# Altium integrated library ESP-WiWi.IntLib: 61 symbols (part 1 of 2)
Pins are listed as number, name and electrical type; pins without a type are passive.

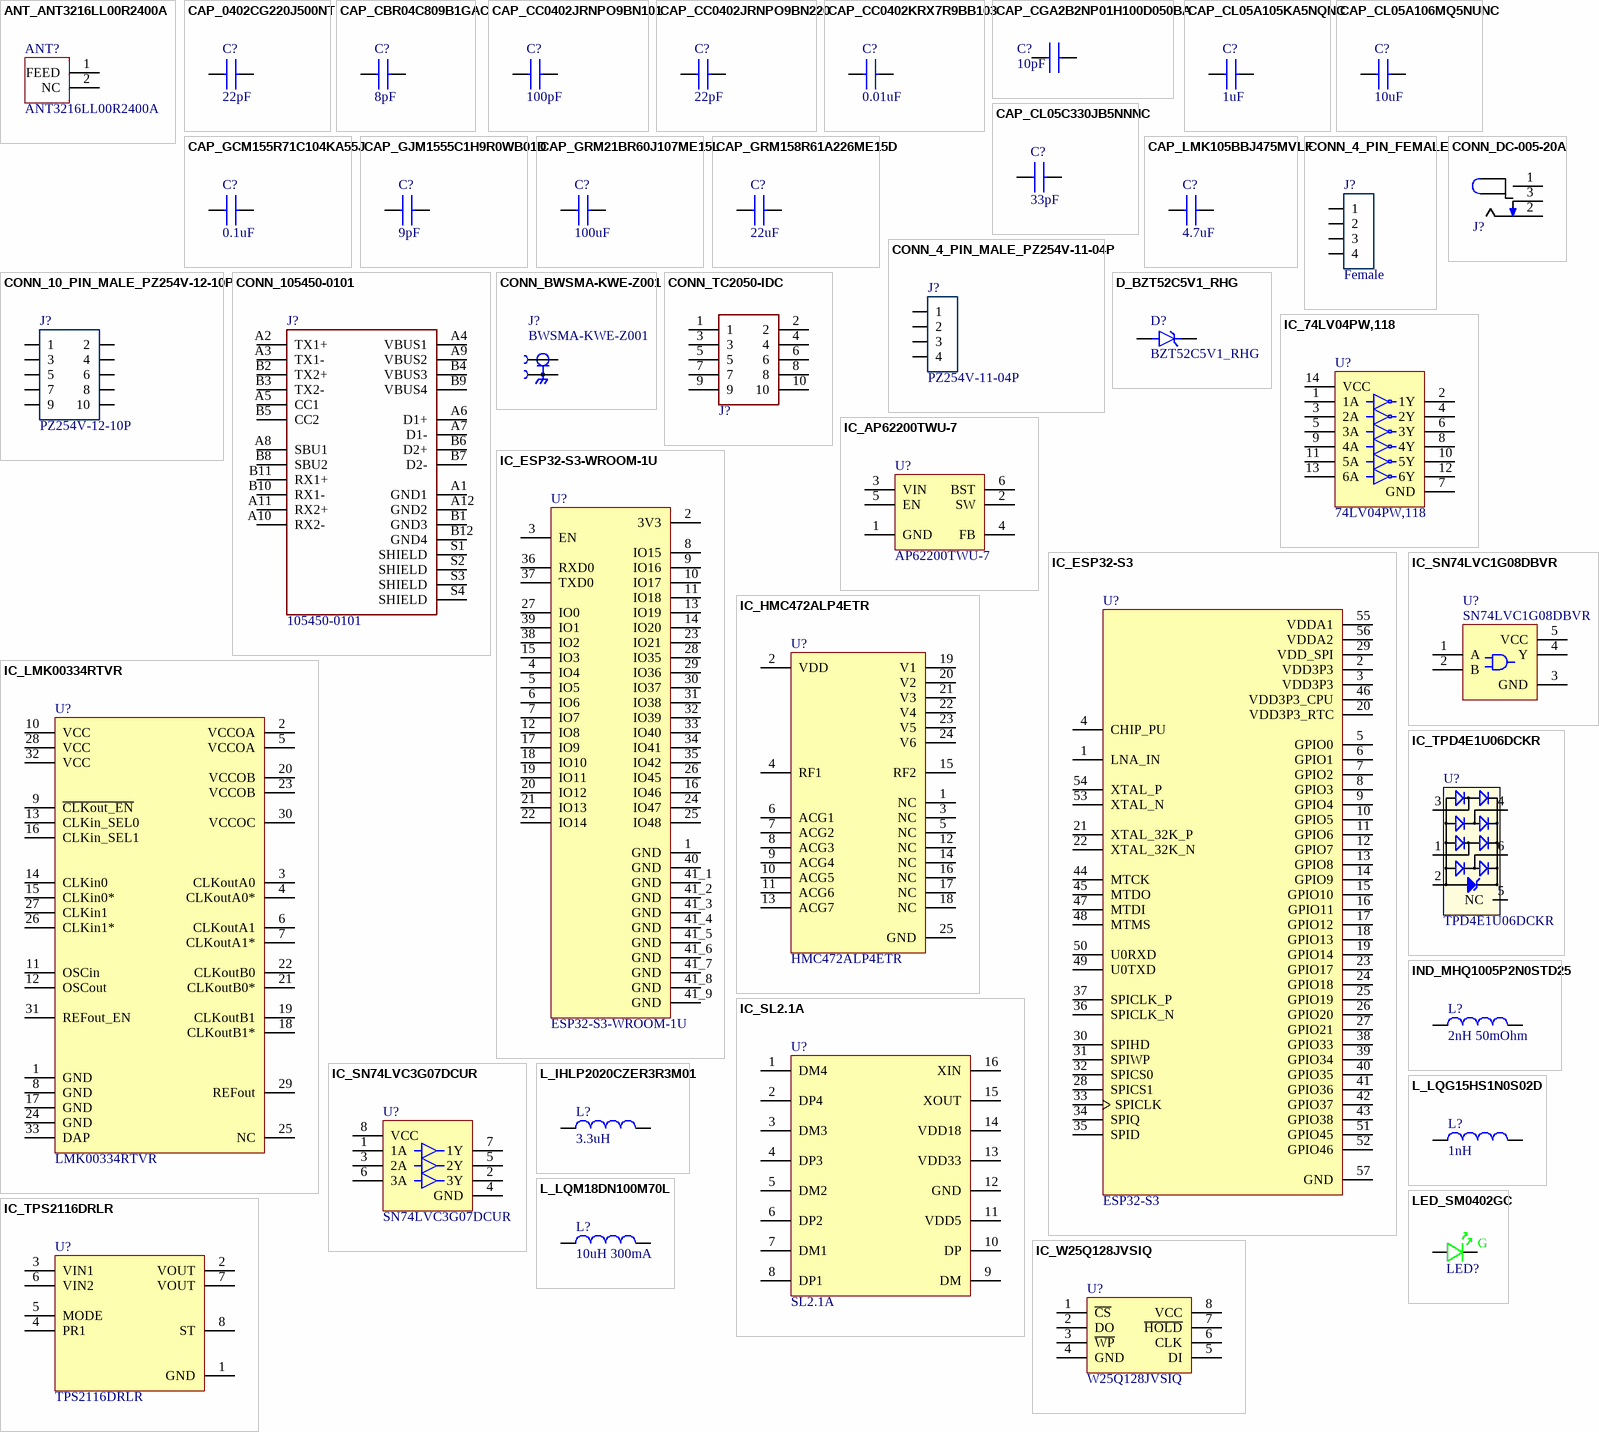
[diagram p0: symbols ANT_ANT3216LL00R2400A to LED_SM0402GC]

## ANT_ANT3216LL00R2400A
designator ANT?, comment ANT3216LL00R2400A
Chip Antenna Linear Single Band 50Ohm 2.4GHz 5.05dBi 2-Pin SMD T/R; Manufacturer: Yageo; Number of Bands: 1; Max Power Dissipation: 1W; Supplier 1: Digi-Key; Manufacturer Part Number: ANT3216LL00R2400A; RoHS: Yes; Category: RF Antennas; Mount: Surface Mount; Packaging: Cut Tape; Termination: Solder; ComponentLink1URL: http://www.yageo.com/NewPortal/_en/search/productDocs.jsp?YageoPartNumber=ANT3216LL00R2400A&src-supplier=Digi-Key; ComponentLink1Description: http://www.yageo.com/NewPortal/_en/search/productDocs.jsp?YageoPartNumber=ANT3216LL00R2400A&src-supplier=Digi-Key; Supplier Part Number 1: 311-4590-2-ND
footprint ANT_ANT3216LL00R2400A
pins: 1 FEED, 2 NC

## CAP_0402CG220J500NT
designator C?, comment 22pF
MULTILAYER CERAMIC CAPACITORS MLCC - SMD/SMT 22PF 50V 0402 ROHS 0402CG220J500NT; Type: Basic; Datasheet: https://datasheet.lcsc.com/szlcsc/Guangdong-Fenghua-Advanced-Tech-0402CG220J500NT_C1555.pdf; MFR Part #: 0402CG220J500NT; LCSC Part#: C1555; Value: 22pF
footprint CAP_0402
pins: 1, 2

## CAP_CBR04C809B1GAC
designator C?, comment 8pF
Cap Ceramic 8pF 100V C0G 0.1pF SMD 0402 125°C Punched Paper T/R; Manufacturer: KEMET; Manufacturer Part Number: CBR04C809B1GAC; Supplier 1: Digi-Key; RoHS: Yes; Category: Ceramic Capacitors; Stock 1: 120216; Pricing 1: 1=0.31, 10=0.214, 50=0.1426, 100=0.1212, 500=0.08556, 1000=0.07487, 2500=0.0713, 5000=0.06596 (USD); Mounting Technology: Surface Mount; Case/Package: 0402; Case Code (Metric): 1005; Case Code (Imperial): 0402; Min Operating Temperature: -55°C; Max Operating Temperature: 125°C; Package Quantity: 1; Value: 8pF; Voltage Rating: 100V; Packaging: Cut Tape; Voltage Rating (DC): 100V; Series: CBR; Length: 0.039inch; Width: 0.02inch; Thickness: 0.022inch; RoHS Compliant: Yes; ComponentLink1URL: https://datasheet.ciiva.com/6257/kem-c1030-cbr-smd-6257486.pdf?src-supplier=Digi-Key; ComponentLink1Description: https://datasheet.ciiva.com/6257/kem-c1030-cbr-smd-6257486.pdf?src-supplier=Digi-Key; Supplier Part Number 1: 399-8830-1-ND
footprint CAP_0402
pins: 1, 2

## CAP_CC0402JRNPO9BN101
designator C?, comment 100pF
0402 100 pF 50 V ±5 % Tolerance NP0 SMT Multilayer Ceramic Capacitor; Manufacturer: Yageo; Manufacturer Part Number: CC0402JRNPO9BN101; Tolerance: 5%; Voltage Rating: 50V; Dielectric: C0G; Temperature Coefficient: 30ppm/°C; Insulation Resistance: 100GR; Supplier 1: Digi-Key; RoHS: Yes; Category: Ceramic Capacitors; Stock 1: 12718535; Pricing 1: 1=0.1, 10=0.017, 50=0.0096, 100=0.0078, 500=0.00554, 1000=0.00436, 2500=0.00396, 5000=0.00365 (USD); Mounting Technology: Surface Mount; Case/Package: 0402; Pins: 2; Case Code (Imperial): 0402; Case Code (Metric): 1005; Dielectric Material: Ceramic; Min Operating Temperature: -55°C; Max Operating Temperature: 125°C; Value: 100pF; Voltage Rating (DC): 50V; Packaging: Tape and Reel; Package Quantity: 1; Termination: SMD/SMT; Voltage: 50V; Series: CC; Length: 1mm; Width: 0.02inch; Height: 0.5mm; Thickness: 0.022inch; Depth: 0.5mm; Radiation Hardening: No; Reach SVHC Compliant: No; Lead Free: Lead Free; RoHS Compliant: Yes; ComponentLink1URL: https://datasheet.ciiva.com/23767/25787-23767888.pdf?src-supplier=Newark; ComponentLink1Description: https://datasheet.ciiva.com/23767/25787-23767888.pdf?src-supplier=Newark; ComponentLink2URL: https://datasheet.ciiva.com/11786/0900766b80d84fbf-11786101.pdf?src-supplier=Rs; ComponentLink2Description: https://datasheet.ciiva.com/11786/0900766b80d84fbf-11786101.pdf?src-supplier=Rs; ComponentLink3URL: https://datasheet.ciiva.com/28450/1443161-28450220.pdf?src-supplier=Element14; ComponentLink3Description: https://datasheet.ciiva.com/28450/1443161-28450220.pdf?src-supplier=Element14; ComponentLink4URL: https://datasheet.ciiva.com/8033/1443161-8033598.pdf?src-supplier=Element14; ComponentLink4Description: https://datasheet.ciiva.com/8033/1443161-8033598.pdf?src-supplier=Element14; ComponentLink5URL: https://datasheet.ciiva.com/143/mlccorderingcode-143990.pdf?src-supplier=Digi-Key; ComponentLink5Description: https://datasheet.ciiva.com/143/mlccorderingcode-143990.pdf?src-supplier=Digi-Key; ComponentLink6URL: https://datasheet.ciiva.com/143/mlccorderingcode-143989.pdf?src-supplier=Digi-Key; ComponentLink6Description: https://datasheet.ciiva.com/143/mlccorderingcode-143989.pdf?src-supplier=Digi-Key; ComponentLink7URL: https://datasheet.ciiva.com/143/mlccorderingcode-143991.pdf?src-supplier=Digi-Key; ComponentLink7Description: https://datasheet.ciiva.com/143/mlccorderingcode-143991.pdf?src-supplier=Digi-Key; Supplier Part Number 1: 311-1024-1-ND
footprint CAP_0402
pins: 1, 2

## CAP_CC0402JRNPO9BN220
designator C?, comment 22pF
0402 22 pF 50 V ±5 % Tolerance NP0 SMT Multilayer Ceramic Capacitor; Manufacturer: Yageo; Manufacturer Part Number: CC0402JRNPO9BN220; Tolerance: 5%; Dielectric: C0G; Voltage Rating (DC): 50V; Temperature Coefficient: 30ppm/°C; Insulation Resistance: 100GR; Supplier 1: Digi-Key; RoHS: Yes; Category: Ceramic Capacitors; Stock 1: 1052; Pricing 1: 1=0.10000, 10=0.02200, 50=0.01180, 100=0.00960, 500=0.00688, 1000=0.00541, 2500=0.00492, 5000=0.00452 (USD); Mount: Surface Mount; Case/Package: 0402; Number of Pins: 2; Dielectric Material: Ceramic; Case Code (Metric): 1005; Case Code (Imperial): 0402; Min Operating Temperature: -55°C; Max Operating Temperature: 125°C; Capacitance: 22pF; Voltage: 50V; Series: CC; Voltage Rating: 50V; Packaging: Tape and Reel; Package Quantity: 1; Termination: SMD/SMT; Resistor Type: Ceramic; Length: 1mm; Width: 0.02inch; Height: 0.5mm; Depth: 0.5mm; Thickness: 0.022inch; Radiation Hardening: No; REACH SVHC: No SVHC; Lead Free: Lead Free; RoHS Compliant: Yes; ComponentLink1URL: https://datasheet.ciiva.com/143/mlccorderingcode-143986.pdf?src-supplier=Digi-Key; ComponentLink1Description: https://datasheet.ciiva.com/143/mlccorderingcode-143986.pdf?src-supplier=Digi-Key; ComponentLink2URL: https://datasheet.ciiva.com/143/mlccorderingcode-143987.pdf?src-supplier=Digi-Key; ComponentLink2Description: https://datasheet.ciiva.com/143/mlccorderingcode-143987.pdf?src-supplier=Digi-Key; ComponentLink3URL: https://datasheet.ciiva.com/143/mlccorderingcode-143988.pdf?src-supplier=Digi-Key; ComponentLink3Description: https://datasheet.ciiva.com/143/mlccorderingcode-143988.pdf?src-supplier=Digi-Key; ComponentLink4URL: https://datasheet.ciiva.com/5789/1443161-5789509.pdf?src-supplier=Farnell; ComponentLink4Description: https://datasheet.ciiva.com/5789/1443161-5789509.pdf?src-supplier=Farnell; ComponentLink5URL: https://datasheet.ciiva.com/5425/upy-gp-np0-16v-to-50v-8-5425483.pdf?src-supplier=Mouser; ComponentLink5Description: https://datasheet.ciiva.com/5425/upy-gp-np0-16v-to-50v-8-5425483.pdf?src-supplier=Mouser; ComponentLink6URL: https://datasheet.ciiva.com/15189/getdatasheetpartid-370074-15189117.pdf?src-supplier=Verical; ComponentLink6Description: https://datasheet.ciiva.com/15189/getdatasheetpartid-370074-15189117.pdf?src-supplier=Verical; ComponentLink7URL: https://datasheet.ciiva.com/7656/1132289-7656615.pdf?src-supplier=Element14; ComponentLink7Description: https://datasheet.ciiva.com/7656/1132289-7656615.pdf?src-supplier=Element14; ComponentLink8URL: https://datasheet.ciiva.com/16625/upy-gp-np0-16v-to-50v-8-16625509.pdf?src-supplier=Avnet+Europe; ComponentLink8Description: https://datasheet.ciiva.com/16625/upy-gp-np0-16v-to-50v-8-16625509.pdf?src-supplier=Avnet+Europe; ComponentLink9URL: https://datasheet.ciiva.com/8033/1443161-8033605.pdf?src-supplier=Element14; ComponentLink9Description: https://datasheet.ciiva.com/8033/1443161-8033605.pdf?src-supplier=Element14; ComponentLink10URL: https://datasheet.ciiva.com/8033/1443161-8033606.pdf?src-supplier=Element14; ComponentLink10Description: https://datasheet.ciiva.com/8033/1443161-8033606.pdf?src-supplier=Element14; ComponentLink11URL: https://datasheet.ciiva.com/8033/1443161-8033607.pdf?src-supplier=Element14; ComponentLink11Description: https://datasheet.ciiva.com/8033/1443161-8033607.pdf?src-supplier=Element14; Supplier Part Number 1: 311-1018-1-ND
footprint CAP_0402
pins: 1, 2

## CAP_CC0402KRX7R9BB103
designator C?, comment 0.01uF
Cap Ceramic 0.01uF 50V X7R 10% Pad SMD 0402 125°C T/R; Manufacturer: Yageo; Manufacturer Part Number: CC0402KRX7R9BB103; Capacitance: 10nF; Supplier 1: Digi-Key; RoHS: Yes; Category: Ceramic Capacitors; Stock 1: 2049089; Pricing 1: 1=0.10000, 10=0.01800, 50=0.01000, 100=0.00820, 500=0.00588, 1000=0.00462, 2500=0.00420, 5000=0.00386 (USD); Mount: Surface Mount; Case/Package: 0402; Case Code (Imperial): 0402; Case Code (Metric): 1005; Min Operating Temperature: -55°C; Max Operating Temperature: 125°C; Tolerance: 10%; Dielectric: X7R; Packaging: Tape and Reel; Voltage Rating: 50V; Voltage Rating (DC): 50V; Package Quantity: 1; Termination: SMD/SMT; Resistor Type: Ceramic; Voltage: 50V; Series: CC; Length: 1mm; Width: 0.5mm; Height: 0.5mm; Thickness: 0.022inch; Depth: 0.5mm; Radiation Hardening: No; RoHS Compliant: Yes; REACH SVHC: No SVHC; Lead Free: Lead Free; Halogen Free: Halogen Free; ComponentLink1URL: https://datasheet.ciiva.com/11788/0900766b8079c870-11788375.pdf?src-supplier=RSComponents; ComponentLink1Description: https://datasheet.ciiva.com/11788/0900766b8079c870-11788375.pdf?src-supplier=RSComponents; ComponentLink2URL: https://datasheet.ciiva.com/26862/getdatasheetpartid-138248-26862642.pdf?src-supplier=Verical; ComponentLink2Description: https://datasheet.ciiva.com/26862/getdatasheetpartid-138248-26862642.pdf?src-supplier=Verical; ComponentLink3URL: https://datasheet.ciiva.com/7978/1489800-7978093.pdf?src-supplier=Element14; ComponentLink3Description: https://datasheet.ciiva.com/7978/1489800-7978093.pdf?src-supplier=Element14; ComponentLink4URL: https://datasheet.ciiva.com/28450/1489800-28450377.pdf?src-supplier=Element14; ComponentLink4Description: https://datasheet.ciiva.com/28450/1489800-28450377.pdf?src-supplier=Element14; ComponentLink5URL: https://datasheet.ciiva.com/176/mlccorderingcode-176349.pdf?src-supplier=Digi-Key; ComponentLink5Description: https://datasheet.ciiva.com/176/mlccorderingcode-176349.pdf?src-supplier=Digi-Key; ComponentLink6URL: https://datasheet.ciiva.com/176/mlccorderingcode-176348.pdf?src-supplier=Digi-Key; ComponentLink6Description: https://datasheet.ciiva.com/176/mlccorderingcode-176348.pdf?src-supplier=Digi-Key; ComponentLink7URL: https://datasheet.ciiva.com/176/mlccorderingcode-176350.pdf?src-supplier=Digi-Key; ComponentLink7Description: https://datasheet.ciiva.com/176/mlccorderingcode-176350.pdf?src-supplier=Digi-Key; ComponentLink8URL: https://datasheet.ciiva.com/16625/upy-gphc-x7r-6-3v-to-50v-8-16625513.pdf?src-supplier=Avnet+Europe; ComponentLink8Description: https://datasheet.ciiva.com/16625/upy-gphc-x7r-6-3v-to-50v-8-16625513.pdf?src-supplier=Avnet+Europe; Supplier Part Number 1: 311-1349-1-ND
footprint CAP_0402
pins: 1, 2

## CAP_CGA2B2NP01H100D050BA
designator C?, comment 10pF
Cap Ceramic 10pF 50V C0G 0.5pF Pad SMD 0402 150C Automotive T/R; Manufacturer: TDK; Manufacturer Part Number: CGA2B2NP01H100D050BA; Supplier 1: Digi-Key; RoHS: Yes; Category: Ceramic Capacitors; Stock 1: 696060; Pricing 1: 1=0.1, 10=0.072, 50=0.0408, 100=0.0338, 500=0.02372, 1000=0.01964, 2500=0.01828, 5000=0.01672 (USD); Mounting Technology: Surface Mount; Case/Package: 0402; Case Code (Metric): 1005; Case Code (Imperial): 0402; Weight: 2.3E-05oz; Min Operating Temperature: -55°C; Max Operating Temperature: 150°C; Package Quantity: 1; Packaging: Tape and Reel; Value: 10pF; Voltage Rating: 50V; Dielectric: C0G; Termination: SMD/SMT; Voltage Rating (DC): 50V; Features: High Temperature; Series: CGA; Length: 0.039inch; Width: 0.02inch; Height: 0.5mm; Thickness: 0.022inch; Ratings: AEC-Q200; Lead Free: Lead Free; RoHS Compliant: Yes; ComponentLink1URL: http://www.farnell.com/datasheets/2628288.pdf?src-supplier=Farnell; ComponentLink1Description: http://www.farnell.com/datasheets/2628288.pdf?src-supplier=Farnell; ComponentLink2URL: http://www.mouser.com/ds/2/400/mlcc_automotive_hightemp_en-520039.pdf?src-supplier=Mouser; ComponentLink2Description: http://www.mouser.com/ds/2/400/mlcc_automotive_hightemp_en-520039.pdf?src-supplier=Mouser; ComponentLink3URL: http://product.tdk.com/en/catalog/datasheets/mlcc_automotive_hightemp_en.pdf?src-supplier=Avnet; ComponentLink3Description: http://product.tdk.com/en/catalog/datasheets/mlcc_automotive_hightemp_en.pdf?src-supplier=Avnet; ComponentLink4URL: https://product.tdk.com/info/en/documents/chara_sheet/CGA2B2NP01H100D050BA.pdf?src-supplier=Digi-Key; ComponentLink4Description: https://product.tdk.com/info/en/documents/chara_sheet/CGA2B2NP01H100D050BA.pdf?src-supplier=Digi-Key; ComponentLink5URL: http://www.farnell.com/datasheets/2628288.pdf?src-supplier=Element14; ComponentLink5Description: http://www.farnell.com/datasheets/2628288.pdf?src-supplier=Element14; ComponentLink6URL: http://www.farnell.com/datasheets/2628288.pdf?src-supplier=Newark; ComponentLink6Description: http://www.farnell.com/datasheets/2628288.pdf?src-supplier=Newark; Supplier Part Number 1: 445-12120-1-ND
footprint CAP_0402
pins: 1, 2

## CAP_CL05A105KA5NQNC
designator C?, comment 1uF
Cap Ceramic 1uF 25V X5R 10% SMD 0402 85°C Cardboard T/R; Manufacturer: Samsung; Manufacturer Part Number: CL05A105KA5NQNC; Supplier 1: Digi-Key; RoHS: Yes; Category: Ceramic Capacitors; Pricing 1: 1=0.21000, 10=0.14900, 50=0.08460, 100=0.07000, 500=0.04910, 1000=0.04065, 2500=0.03784, 5000=0.03462 (USD); Mount: Surface Mount; Case/Package: 0402; Case Code (Metric): 1005; Case Code (Imperial): 0402; Material: Ceramic; Min Operating Temperature: -55°C; Max Operating Temperature: 85°C; Tolerance: 10%; Capacitance: 1uF; Voltage Rating: 25V; Packaging: Tape and Reel; Package Quantity: 10000; Dielectric: X5R; Series: CL; Construction: Flat; Length: 1mm; Width: 0.02inch; Height: 0.5mm; Depth: 0.5mm; Thickness: 0.022inch; Radiation Hardening: No; Lead Free: Lead Free; RoHS Compliant: Yes; ComponentLink1URL: https://datasheet.ciiva.com/3777/cl05a105ka5nqnc-3777709.pdf?src-supplier=Arrow+Electronics; ComponentLink1Description: https://datasheet.ciiva.com/3777/cl05a105ka5nqnc-3777709.pdf?src-supplier=Arrow+Electronics; ComponentLink2URL: https://datasheet.ciiva.com/25720/cl05a105ka5nqnc-25720771.pdf?src-supplier=Digi-Key; ComponentLink2Description: https://datasheet.ciiva.com/25720/cl05a105ka5nqnc-25720771.pdf?src-supplier=Digi-Key; ComponentLink3URL: https://datasheet.ciiva.com/29198/459147-da-01-en-vs-kondensator-0402-29198339.pdf?src-supplier=Conrad; ComponentLink3Description: https://datasheet.ciiva.com/29198/459147-da-01-en-vs-kondensator-0402-29198339.pdf?src-supplier=Conrad; Supplier Part Number 1: 1276-1445-6-ND
footprint CAP_0402
pins: 1, 2

## CAP_CL05A106MQ5NUNC
designator C?, comment 10uF
Cap Ceramic 10uF 6.3V X5R 20% SMD 0402 85°C Paper T/R; Manufacturer: Samsung; Manufacturer Part Number: CL05A106MQ5NUNC; Supplier 1: Digi-Key; RoHS: Yes; Category: Ceramic Capacitors; Stock 1: 3345553; Pricing 1: 1=0.27000, 10=0.18400, 50=0.11020, 100=0.09300, 500=0.06362, 1000=0.05629, 2500=0.05384, 5000=0.04894 (USD); Mount: Surface Mount; Case/Package: 0402; Case Code (Metric): 1005; Case Code (Imperial): 0402; Min Operating Temperature: -55°C; Max Operating Temperature: 85°C; Tolerance: 20%; Capacitance: 10uF; Dielectric: X5R; Packaging: Tape and Reel; Package Quantity: 1; Voltage Rating: 6.3V; Series: CL; Construction: Flat; Length: 1mm; Width: 0.02inch; Height: 0.5mm; Thickness: 0.028inch; Depth: 0.5mm; Radiation Hardening: No; ComponentLink1URL: https://datasheet.ciiva.com/16437/cl05a106mq5nunc-16437356.pdf?src-supplier=Future+Electronics; ComponentLink1Description: https://datasheet.ciiva.com/16437/cl05a106mq5nunc-16437356.pdf?src-supplier=Future+Electronics; ComponentLink2URL: https://datasheet.ciiva.com/26877/getdatasheetpartid-355289-26877841.pdf?src-supplier=Verical; ComponentLink2Description: https://datasheet.ciiva.com/26877/getdatasheetpartid-355289-26877841.pdf?src-supplier=Verical; Supplier Part Number 1: 1276-1451-1-ND
footprint CAP_0402
pins: 1, 2

## CAP_CL05C330JB5NNNC
designator C?, comment 33pF
Ceramic capacitor SMD-0402 33pF /50V C0G# J +-5%, Samsung, RoHS; Manufacturer Part Number: CL05C330JB5NNNC; Tolerance: 5%; Voltage Rating: 50V; Dielectric: C0G; Temperature Coefficient: 300ppm/°C; Supplier 1: Digi-Key; Manufacturer: Samsung; RoHS: Yes; Category: Ceramic Capacitors; Stock 1: 9061474; Pricing 1: 1=0.1, 10=0.023, 50=0.0126, 100=0.0102, 500=0.00732, 1000=0.00575, 2500=0.00523, 5000=0.00481 (USD); Mounting Technology: Surface Mount; Case/Package: 0402; Case Code (Metric): 1005; Case Code (Imperial): 0402; Material: Ceramic; Min Operating Temperature: -55°C; Max Operating Temperature: 125°C; Package Quantity: 1; Packaging: Tape and Reel; Value: 33pF; Voltage: 50V; Voltage Rating (DC): 50V; Series: CL; Construction: Flat; Length: 1mm; Width: 0.02inch; Height: 0.5mm; Thickness: 0.022inch; Depth: 0.5mm; Radiation Hardening: No; Lead Free: Lead Free; RoHS Compliant: Yes; ComponentLink1URL: https://datasheet.ciiva.com/15195/getdatasheetpartid-355282-15195687.pdf?src-supplier=Verical; ComponentLink1Description: https://datasheet.ciiva.com/15195/getdatasheetpartid-355282-15195687.pdf?src-supplier=Verical; ComponentLink2URL: https://datasheet.ciiva.com/29198/458594-da-01-en-vs-kondensator-0402-29198402.pdf?src-supplier=Conrad; ComponentLink2Description: https://datasheet.ciiva.com/29198/458594-da-01-en-vs-kondensator-0402-29198402.pdf?src-supplier=Conrad; Supplier Part Number 1: 1276-1272-1-ND
footprint CAP_0402
pins: 1, 2

## CAP_GCM155R71C104KA55J
designator C?, comment 0.1uF
Cap Ceramic 0.1uF 16V X7R 10% SMD 0402 125C Paper T/R; Manufacturer: Murata; Manufacturer Part Number: GCM155R71C104KA55J; Capacitance: 100nF; Supplier 1: Digi-Key; RoHS: Yes; Category: Ceramic Capacitors; Stock 1: 10738061; Pricing 1: 1=0.10000, 10=0.03500, 50=0.01920, 100=0.01560, 500=0.01116, 1000=0.00877, 2500=0.00798, 5000=0.00734 (USD); Mount: Surface Mount; Case/Package: 0402; Case Code (Imperial): 0402; Case Code (Metric): 1005; Min Operating Temperature: -55°C; Max Operating Temperature: 125°C; Tolerance: 10%; Voltage Rating: 16V; Voltage Rating (DC): 16V; Packaging: Tape and Reel; Package Quantity: 1; Dielectric: X7R; Termination: SMD/SMT; Series: GCM; Construction: Flat; Length: 1mm; Width: 0.5mm; Height: 0.5mm; Thickness: 0.022inch; Depth: 0.5mm; Ratings: AEC-Q200; Radiation Hardening: No; Lead Free: Lead Free; ComponentLink1URL: https://datasheet.ciiva.com/11618/product-11618848.pdf?src-supplier=Avnet; ComponentLink1Description: https://datasheet.ciiva.com/11618/product-11618848.pdf?src-supplier=Avnet; ComponentLink2URL: https://datasheet.ciiva.com/16440/gcm155r71c104ka55j-16440393.pdf?src-supplier=Future+Electronics; ComponentLink2Description: https://datasheet.ciiva.com/16440/gcm155r71c104ka55j-16440393.pdf?src-supplier=Future+Electronics; ComponentLink3URL: https://datasheet.ciiva.com/29542/product-29542474.pdf?src-supplier=Digi-Key; ComponentLink3Description: https://datasheet.ciiva.com/29542/product-29542474.pdf?src-supplier=Digi-Key; ComponentLink4URL: https://datasheet.ciiva.com/29542/product-29542475.pdf?src-supplier=Digi-Key; ComponentLink4Description: https://datasheet.ciiva.com/29542/product-29542475.pdf?src-supplier=Digi-Key; Supplier Part Number 1: 490-7998-1-ND
footprint CAP_0402
pins: 1, 2

## CAP_GJM1555C1H9R0WB01D
designator C?, comment 9pF
Cap Ceramic 9pF 50V C0G 0.05pF SMD 0402 125°C Paper T/R; Manufacturer: Murata; Manufacturer Part Number: GJM1555C1H9R0WB01D; Supplier 1: Digi-Key; RoHS: Yes; Category: Ceramic Capacitors; Stock 1: 62783; Pricing 1: 1=0.19, 10=0.131, 50=0.0786, 100=0.0664, 500=0.04542, 1000=0.04019, 2500=0.03844, 5000=0.03495 (USD); Mounting Technology: Surface Mount; Case/Package: 0402; Case Code (Metric): 1005; Case Code (Imperial): 0402; Min Operating Temperature: -55°C; Max Operating Temperature: 125°C; Package Quantity: 10000; Value: 9pF; Voltage Rating: 50V; Packaging: Tape and Reel; Dielectric: C0G; Termination: SMD/SMT; Voltage Rating (DC): 50V; Series: GJM; Construction: Flat; Length: 1mm; Width: 0.02inch; Height: 0.5mm; Thickness: 0.022inch; Depth: 0.5mm; Radiation Hardening: No; RoHS Compliant: Yes; ComponentLink1URL: https://datasheet.ciiva.com/169/product-169670.pdf?src-supplier=Digi-Key; ComponentLink1Description: https://datasheet.ciiva.com/169/product-169670.pdf?src-supplier=Digi-Key; ComponentLink2URL: https://datasheet.ciiva.com/11609/product-11609469.pdf?src-supplier=Avnet; ComponentLink2Description: https://datasheet.ciiva.com/11609/product-11609469.pdf?src-supplier=Avnet; Supplier Part Number 1: 490-11242-1-ND
footprint CAP_0402
pins: 1, 2

## CAP_GRM21BR60J107ME15L
designator C?, comment 100uF
0805 100 uF 6.3 V ±20% Tolerance X5R Multilayer Ceramic Chip Capacitor; Manufacturer: Murata; Manufacturer Part Number: GRM21BR60J107ME15L; Voltage Rating: 6.3V; Supplier 1: Digi-Key; RoHS: Yes; Category: Ceramic Capacitors; Stock 1: 569112; Pricing 1: 1=1.15000, 10=0.90900, 50=0.78800, 100=0.68180, 500=0.51516, 1000=0.45456 (USD); Mounting Technology: Surface Mount; Case/Package: 0805; Case Code (Metric): 2012; Case Code (Imperial): 0805; Min Operating Temperature: -55°C; Max Operating Temperature: 85°C; Packaging: Cut Tape; Dielectric: X5R; Tolerance: 20%; Voltage Rating (DC): 6.3V; Value: 100uF; Series: GRM; Length: 0.079inch; Width: 0.049inch; Thickness: 0.057inch; Reach SVHC Compliant: Yes; Lead Free: Lead Free; RoHS Compliant: Yes; ComponentLink1URL: http://www.farnell.com/datasheets/1957830.pdf?src-supplier=Farnell; ComponentLink1Description: http://www.farnell.com/datasheets/1957830.pdf?src-supplier=Farnell; ComponentLink2URL: http://www.farnell.com/datasheets/1957830.pdf?src-supplier=Element14; ComponentLink2Description: http://www.farnell.com/datasheets/1957830.pdf?src-supplier=Element14; ComponentLink3URL: https://search.murata.co.jp/Ceramy/image/img/A01X/G101/ENG/GRM21BR60J107ME15-01.pdf?src-supplier=Digi-Key; ComponentLink3Description: https://search.murata.co.jp/Ceramy/image/img/A01X/G101/ENG/GRM21BR60J107ME15-01.pdf?src-supplier=Digi-Key; ComponentLink4URL: http://www.farnell.com/datasheets/1957830.pdf?src-supplier=Newark; ComponentLink4Description: http://www.farnell.com/datasheets/1957830.pdf?src-supplier=Newark; Supplier Part Number 1: 490-13981-1-ND
footprint CAP_0805
pins: 1, 2

## CAP_GRM158R61A226ME15D
designator C?, comment 22uF
General Up to 85C Reflow soldering; Manufacturer: Murata; Manufacturer Part Number: GRM158R61A226ME15D; Supplier 1: Digi-Key; RoHS: Yes; Category: Ceramic Capacitors; Stock 1: 10275; Pricing 1: 1=0.48000, 10=0.33200, 50=0.23260, 100=0.19940, 500=0.14954, 1000=0.12627, 2500=0.11962 (USD); Supplier Part Number 1: 490-GRM158R61A226ME15DCT-ND
footprint CAP_0402
pins: 1, 2

## CAP_LMK105BBJ475MVLF
designator C?, comment 4.7uF
Multilayer Ceramic Capacitors MLCC - SMD/SMT 4.7uF 10V X5R +/-20% 0402 Gen Purp; Manufacturer: Taiyo Yuden; Manufacturer Part Number: LMK105BBJ475MVLF; Tolerance: 20%; Supplier 1: Digi-Key; RoHS: Yes; Category: Ceramic Capacitors; Pricing 1: 1=0.21000, 10=0.14400, 50=0.08640, 100=0.07300, 500=0.04994, 1000=0.04417, 2500=0.04225, 5000=0.03841 (USD); Mount: Surface Mount; Case/Package: 0402; Case Code (Metric): 1005; Case Code (Imperial): 0402; Weight: 2.3E-05oz; Min Operating Temperature: -55°C; Max Operating Temperature: 85°C; Capacitance: 4.7uF; Package Quantity: 10000; Packaging: Tape and Reel; Voltage Rating: 10V; Voltage Rating (DC): 10V; Dielectric: X5R; Termination: SMD/SMT; Resistor Type: Ceramic; Length: 1mm; Width: 0.02inch; Height: 0.5mm; Thickness: 0.022inch; Halogen Free: Halogen Free; RoHS Compliant: Yes; ComponentLink1URL: https://datasheet.ciiva.com/24462/423lmk105bbj475mvlf-24462535.pdf?src-supplier=Onlinecomponents.com; ComponentLink1Description: https://datasheet.ciiva.com/24462/423lmk105bbj475mvlf-24462535.pdf?src-supplier=Onlinecomponents.com; ComponentLink2URL: https://datasheet.ciiva.com/18697/mlcc-all-e-18697686.pdf?src-supplier=Digi-Key; ComponentLink2Description: https://datasheet.ciiva.com/18697/mlcc-all-e-18697686.pdf?src-supplier=Digi-Key; ComponentLink3URL: https://datasheet.ciiva.com/18697/mlcc-all-e-18697685.pdf?src-supplier=Digi-Key; ComponentLink3Description: https://datasheet.ciiva.com/18697/mlcc-all-e-18697685.pdf?src-supplier=Digi-Key; Supplier Part Number 1: 587-3408-1-ND
footprint CAP_0402
pins: 1, 2

## CONN_4_PIN_FEMALE
designator J?, comment value Female  (hidden comment: PPTC041LFBN-RC)
4 Position Header Connector 0.100" (2.54mm) Through Hole Tin; Digikey Link: https://www.digikey.com/product-detail/en/PPTC061LFBN-RC/S7004-ND/810145/?itemSeq=304982353; Digikey Part: S7004-ND; LCSC Part#: DNP
footprint CONN_4_PIN_100MIL
pins: 1, 2, 3, 4

## CONN_4_PIN_MALE_PZ254V-11-04P
designator J?, comment PZ254V-11-04P
单排排针 间距2.54mm 4pin 直插; Manufacturer: XFCN; Supplier 1: LCSC; Manufacturer Part Number: PZ254V-11-04P; RoHS: No; Stock 1: 101260; Pricing 1: 20=0.0196, 200=0.0157, 1000=0.0125, 2000=0.0112, 10000=0.01, 20000=0.0095 (USD); Supplier Part Number 1: C2691448
footprint CONN_4_PIN_M_100MIL
pins: 1, 2, 3, 4

## CONN_10_PIN_MALE_PZ254V-12-10P
designator J?, comment PZ254V-12-10P
双排排针 间距2.54mm 10pin 直插; Manufacturer: XFCN; Supplier 1: LCSC; Manufacturer Part Number: PZ254V-12-10P; RoHS: No; Stock 1: 26650; Pricing 1: 10=0.0491, 100=0.0405, 300=0.0362, 1000=0.0308, 5000=0.0283, 10000=0.027 (USD); Supplier Part Number 1: C492422
footprint CONN_10_PIN_M_100MIL
pins: 1, 2, 3, 4, 5, 6, 7, 8, 9, 10

## CONN_105450-0101
designator J?, comment 105450-0101
USB-C (USB TYPE-C) USB 3.2 Gen 2 (USB 3.1 Gen 2, Superspeed + (USB 3.1)) Receptacle Connector 24 Position Surface Mount, Right Angle; Through Hole; MF: Molex; MP: 105450-0101; Availability: In Stock; Check_prices: https://www.snapeda.com/parts/105450-0101/Molex/view-part/?ref=eda; Price: None; SnapEDA_Link: https://www.snapeda.com/parts/105450-0101/Molex/view-part/?ref=snap; Purchase-URL: https://pricing.snapeda.com/search/part/105450-0101/?ref=eda; Package: None; Value: *
footprint CONN_105450-0101
pins: A1 GND1, A2 TX1+, A3 TX1-, A4 VBUS1, A5 CC1, A6 D1+, A7 D1-, A8 SBU1, A9 VBUS2, A10 RX2-, A11 RX2+, A12 GND2, B1 GND3, B2 TX2+, B3 TX2-, B4 VBUS3, B5 CC2, B6 D2+, B7 D2-, B8 SBU2, B9 VBUS4, B10 RX1-, B11 RX1+, B12 GND4, S1 SHIELD, S2 SHIELD, S3 SHIELD, S4 SHIELD

## CONN_BWSMA-KWE-Z001
designator J?, comment BWSMA-KWE-Z001
0-12.4GHz 50Ω 335V 弯插; Manufacturer: BAT Wireless; Supplier 1: LCSC; Manufacturer Part Number: BWSMA-KWE-Z001; RoHS: No; Stock 1: 23693; Pricing 1: 1=0.4407, 10=0.3469, 30=0.3023, 100=0.261, 500=0.2498, 1000=0.2435 (USD); Supplier Part Number 1: C496551
footprint CONN_SMA_5
pins: 1, S1 2, S2 2, S3 3, S4 4

## CONN_DC-005-20A
designator J?, comment Power Jack  (value not drawn)
Power Barrel Connector Jack 2.10mm ID (0.083"), 5.50mm OD (0.217") Through Hole, Right Angle; Value: CONN PWR JACK 2X5.5MM SOLDER; Digikey Link: https://www.digikey.com/product-detail/en/PJ-102A/CP-102A-ND/275425/?itemSeq=304982367; Digikey Part: CP-102A-ND; LCSC Part#: C136744; Type: Extended
footprint CONN_DC-005-20A
pins: 1 (power), 2 (power), 3 (power)

## CONN_TC2050-IDC
designator J?  (value not drawn)
Cbl Plug-Of-Nails 10-Pin w/Legs; MF: {'manufacturer': u'Tag-Connect LLC'}; Availability: Unavailable; Price: None; Value: *; MP: TC2050-IDC; Package: None
footprint CONN_TAG-CONNECT_TC2050-IDC
pins: 1, 2, 3, 4, 5, 6, 7, 8, 9, 10

## D_BZT52C5V1_RHG
designator D?, comment BZT52C5V1_RHG
Vz=5.1V 4.8V~5.4V Izt=5mA; Manufacturer: Diodes; Manufacturer Part Number: BZT52C5V1-7-F; MP: BZT52C5V1 RHG; MF: Taiwan Semiconductor; Zener Voltage: 5.1V; Max Power Dissipation: 500mW; Impedance: 60R; Voltage Tolerance: 6%; Test Current: 5mA; Max Reverse Leakage Current: 2uA; Forward Voltage: 900mV; Output Current: 50mA; Availability: In Stock; SnapEDA_Link: https://www.snapeda.com/parts/BZT52C5V1%20RHG/Taiwan+Semiconductor/view-part/?ref=snap; Value: *; Price: None; Package: SOD-123F Taiwan Semiconductor; Purchase-URL: https://pricing.snapeda.com/search/part/BZT52C5V1 RHG/?ref=eda; Check_prices: https://www.snapeda.com/parts/BZT52C5V1%20RHG/Taiwan+Semiconductor/view-part/?ref=eda; Supplier 1: LCSC; RoHS: Yes; Category: Zener Diodes; Stock 1: 13380; Pricing 1: 20=0.0177, 200=0.0158, 600=0.0154, 3000=0.0137 (USD); Mounting Technology: Surface Mount; Pins: 2; Weight: 0.000353oz; Min Operating Temperature: -65°C; Max Operating Temperature: 150°C; Packaging: Tape and Reel; Package Quantity: 3000; Tolerance: 6%; Power Dissipation: 500mW; Series: -; Zener Current: 5mA; Power Rating: 500mW; Max Reverse Current: 2uA; Termination: SMD/SMT; Voltage Rating (DC): 5.1V; Working Voltage: 5.1V; Length: 2.85mm; Width: 1.7mm; Height: 1.35mm; Radiation Hardening: No; RoHS Compliant: Yes; Lead Free: Lead Free; Reach SVHC Compliant: No; ComponentLink1URL: https://datasheet.ciiva.com/15142/getdatasheetpartid-75143-15142417.pdf?src-supplier=Verical; ComponentLink1Description: https://datasheet.ciiva.com/15142/getdatasheetpartid-75143-15142417.pdf?src-supplier=Verical; ComponentLink2URL: https://datasheet.ciiva.com/4734/ds18004-73542-4734246.pdf?src-supplier=Mouser; ComponentLink2Description: https://datasheet.ciiva.com/4734/ds18004-73542-4734246.pdf?src-supplier=Mouser; ComponentLink3URL: https://datasheet.ciiva.com/22713/1670962-22713975.pdf?src-supplier=Element14; ComponentLink3Description: https://datasheet.ciiva.com/22713/1670962-22713975.pdf?src-supplier=Element14; Supplier Part Number 1: C151588
footprint D_BZT52C5V1_RHG
pins: A, C K

## IC_74LV04PW,118
designator U?, comment 74LV04PW,118
IC HEX INVERTER 14TSSOP; Manufacturer: Nexperia; Supplier 1: LCSC; Manufacturer Part Number: 74LV04PW,118; RoHS: Yes; Category: Logic Gates; Stock 1: 9740; Pricing 1: 5=0.1694, 50=0.1449, 150=0.1411, 500=0.1353 (USD); RoHS Compliant: Yes; Supplier Part Number 1: C547867
footprint TSSOP14 (Shrink Small Outline; 14 Leads; Body Width 4.4 mm; Pitch 0.65 mm)
pins: 1 1A, 2 1Y, 3 2A, 4 2Y, 5 3A, 6 3Y, 7 GND, 8 4Y, 9 4A, 10 5Y, 11 5A, 12 6Y, 13 6A, 14 VCC

## IC_AP62200TWU-7
designator U?, comment AP62200TWU-7
4.2V to 18V Input, 2A Low Iq Synchronous Buck Converter, Pfm/pwm; Manufacturer: Diodes; Supplier 1: LCSC; Manufacturer Part Number: AP62200TWU-7; RoHS: Yes; Category: Voltage Regulators - Switching; Stock 1: 68810; Pricing 1: 5=0.127, 50=0.1034, 150=0.0916, 500=0.0743, 3000=0.0673, 6000=0.0637 (USD); Supplier Part Number 1: C2895288
footprint IC_AP62200TWU-7
pins: 1 GND, 2 SW, 3 VIN, 4 FB, 5 EN, 6 BST

## IC_ESP32-S3
designator U?, comment ESP32-S3
IC RF TxRx + MCU Bluetooth, WiFi 802.11b/g/n, Bluetooth v5.0 2.412GHz ~ 2.484GHz 56-VFQFN Exposed Pad; MF: Espressif Systems; Check_prices: https://www.snapeda.com/parts/ESP32-S3/Espressif+Systems/view-part/?ref=eda; Purchase-URL: https://pricing.snapeda.com/search/part/ESP32-S3/?ref=eda; Value: *; Availability: In Stock; Package: None; SnapEDA_Link: https://www.snapeda.com/parts/ESP32-S3/Espressif+Systems/view-part/?ref=snap; MP: ESP32-S3; Price: None; Supplier 1: LCSC; Supplier Part Number 1: C2913192
footprint IC_ESP32-S3
pins: 1 LNA_IN, 2 VDD3P3, 3 VDD3P3, 4 CHIP_PU, 5 GPIO0, 6 GPIO1, 7 GPIO2, 8 GPIO3, 9 GPIO4, 10 GPIO5, 11 GPIO6, 12 GPIO7, 13 GPIO8, 14 GPIO9, 15 GPIO10, 16 GPIO11, 17 GPIO12, 18 GPIO13, 19 GPIO14, 20 VDD3P3_RTC, 21 XTAL_32K_P, 22 XTAL_32K_N, 23 GPIO17, 24 GPIO18, 25 GPIO19, 26 GPIO20, 27 GPIO21, 28 SPICS1, 29 VDD_SPI, 30 SPIHD, 31 SPIWP, 32 SPICS0, 33 SPICLK, 34 SPIQ, 35 SPID, 36 SPICLK_N, 37 SPICLK_P, 38 GPIO33, 39 GPIO34, 40 GPIO35, 41 GPIO36, 42 GPIO37, 43 GPIO38, 44 MTCK, 45 MTDO, 46 VDD3P3_CPU, 47 MTDI, 48 MTMS, 49 U0TXD, 50 U0RXD, 51 GPIO45, 52 GPIO46, 53 XTAL_N, 54 XTAL_P, 55 VDDA1 (power), 56 VDDA2, 57 GND

## IC_ESP32-S3-WROOM-1U
designator U?, comment ESP32-S3-WROOM-1U
2.4 GHz Wi-Fi (802.11 b/g/n) and Bluetooth 5 (LE) module; MF: Espressif Systems; Value: *; Package: Package; Check_prices: https://www.snapeda.com/parts/ESP32-S3-WROOM-1U/Espressif+Systems/view-part/?ref=eda; Price: None; MP: ESP32-S3-WROOM-1U; Availability: Not in stock; SnapEDA_Link: https://www.snapeda.com/parts/ESP32-S3-WROOM-1U/Espressif+Systems/view-part/?ref=snap; Supplier 1: Digi-Key; Supplier Part Number 1: 1965-ESP32-S3-WROOM-1U-N8R8CT-ND
footprint IC_ESP32-S3-WROOM-1U
pins: 1 GND, 2 3V3, 3 EN, 4 IO4, 5 IO5, 6 IO6, 7 IO7, 8 IO15, 9 IO16, 10 IO17, 11 IO18, 12 IO8, 13 IO19, 14 IO20, 15 IO3, 16 IO46, 17 IO9, 18 IO10, 19 IO11, 20 IO12, 21 IO13, 22 IO14, 23 IO21, 24 IO47, 25 IO48, 26 IO45, 27 IO0, 28 IO35, 29 IO36, 30 IO37, 31 IO38, 32 IO39, 33 IO40, 34 IO41, 35 IO42, 36 RXD0, 37 TXD0, 38 IO2, 39 IO1, 40 GND, 41_1 GND, 41_2 GND, 41_3 GND, 41_4 GND, 41_5 GND, 41_6 GND, 41_7 GND, 41_8 GND, 41_9 GND

## IC_HMC472ALP4ETR
designator U?, comment HMC472ALP4ETR
RF Attenuator 31.5dB ±0.35dB 0 ~ 3.8GHz 50 Ohm 560mW 24-VFQFN Exposed Pad; Manufacturer: Analog Devices; Impedance: 50R; Number of Bits: 6; Number of Channels: 1; Insertion Loss: 3dB; Operating Supply Voltage: 5V; Supplier 1: LCSC; Manufacturer Part Number: HMC472ALP4ETR; RoHS: Yes; Category: RF Semiconductors and Devices; Stock 1: 927; Pricing 1: 1=2.2846, 10=1.9791, 30=1.7882, 100=1.4844, 500=1.3969, 1000=1.3587 (USD); Case/Package: SMD/SMT; Pins: 24; Weight: 0.032741oz; Min Operating Temperature: -40°C; Max Operating Temperature: 85°C; Package Quantity: 500; Max Power Dissipation: 560mW; Packaging: Tape and Reel; Series: -; Attenuation Value: 31.5dB; Clock Frequency: 3.8GHz; Technology: GAAS; Lead Free: Contains Lead; RoHS Compliant: Yes; ComponentLink1URL: https://datasheet.ciiva.com/46637/qtr-2013-00285-46637115.pdf?src-supplier=Digi-Key; ComponentLink1Description: https://datasheet.ciiva.com/46637/qtr-2013-00285-46637115.pdf?src-supplier=Digi-Key; ComponentLink2URL: https://datasheet.ciiva.com/46637/qtr-2013-00285-46637114.pdf?src-supplier=Digi-Key; ComponentLink2Description: https://datasheet.ciiva.com/46637/qtr-2013-00285-46637114.pdf?src-supplier=Digi-Key; ComponentLink3URL: https://datasheet.ciiva.com/46637/qtr-2013-00285-46637116.pdf?src-supplier=Digi-Key; ComponentLink3Description: https://datasheet.ciiva.com/46637/qtr-2013-00285-46637116.pdf?src-supplier=Digi-Key; Supplier Part Number 1: C208585
footprint IC_HMC472ALP4ETR
pins: 1 NC, 2 VDD (power), 3 NC, 4 RF1, 5 NC, 6 ACG1, 7 ACG2, 8 ACG3, 9 ACG4, 10 ACG5, 11 ACG6, 12 NC, 13 ACG7, 14 NC, 15 RF2, 16 NC, 17 NC, 18 NC, 19 V1, 20 V2, 21 V3, 22 V4, 23 V5, 24 V6, 25 GND (power)

## IC_LMK00334RTVR
designator U?, comment LMK00334RTVR
4-output PCIe Gen1/Gen2/Gen3/Gen4 clock buffer and level translator 32-WQFN -40 to 85; Manufacturer: Texas Instruments; Number of Outputs: 4; Number of Circuits: 1; Clock Frequency: 400MHz; Input: Crystal; PLL: No; Min Supply Voltage: 3.15V; Max Supply Voltage: 3.45V; Operating Supply Current: 13.5mA; Propagation Delay: 2700ps; Max Duty Cycle: 55%; Operating Supply Voltage: 3.3V; Supply Current: 8.5mA; Supplier 1: LCSC; Manufacturer Part Number: LMK00334RTVR; RoHS: Yes; Category: Clock Buffers, Drivers; Stock 1: 1001; Pricing 1: 1=2.0539, 10=1.7676, 30=1.5894, 100=1.3841, 500=1.3014, 1000=1.2648 (USD); Mounting Technology: Surface Mount; Pins: 32; Min Operating Temperature: -40°C; Max Operating Temperature: 85°C; Packaging: Tape and Reel; Series: -; Frequency: 400MHz; Package Quantity: 1000; Radiation Hardening: No; RoHS Compliant: Yes; Reach SVHC Compliant: No; Lead Free: Lead Free; ComponentLink1URL: https://datasheet.ciiva.com/28657/1789733-28657440.pdf?src-supplier=Element14; ComponentLink1Description: https://datasheet.ciiva.com/28657/1789733-28657440.pdf?src-supplier=Element14; ComponentLink2URL: https://datasheet.ciiva.com/29661/lmk00334-29661008.pdf?src-supplier=Digi-Key; ComponentLink2Description: https://datasheet.ciiva.com/29661/lmk00334-29661008.pdf?src-supplier=Digi-Key; Supplier Part Number 1: C201644
footprint IC_LMK00334RTVR
pins: 1 GND, 2 VCCOA, 3 CLKoutA0, 4 CLKoutA0*, 5 VCCOA, 6 CLKoutA1, 7 CLKoutA1*, 8 GND, 9 ~{CLKout_EN}, 10 VCC, 11 OSCin, 12 OSCout, 13 CLKin_SEL0, 14 CLKin0, 15 CLKin0*, 16 CLKin_SEL1, 17 GND, 18 CLKoutB1*, 19 CLKoutB1, 20 VCCOB, 21 CLKoutB0*, 22 CLKoutB0, 23 VCCOB, 24 GND, 25 NC, 26 CLKin1*, 27 CLKin1, 28 VCC, 29 REFout, 30 VCCOC, 31 REFout_EN, 32 VCC, 33 DAP

## IC_SL2.1A
designator U?, comment SL2.1A
USB 2.0 HIGH SPEED 4-PORT HUB CONTROLLER; MF: CoreChips ShenZhen CO.,Ltd; Check_prices: https://www.snapeda.com/parts/SL2.1A/CoreChips%20ShenZhen%20CO.,Ltd/view-part/4219225/?ref=eda; Price: None; Availability: No availability data; Value: *; SnapEDA_Link: https://www.snapeda.com/parts/SL2.1A/CoreChips%20ShenZhen%20CO.,Ltd/view-part/4219225/?ref=snap; MP: SL2.1A; Package: Package; Supplier 1: LCSC; Supplier Part Number 1: C192893
footprint IC_SL2.1A
pins: 1 DM4, 2 DP4, 3 DM3, 4 DP3, 5 DM2, 6 DP2, 7 DM1, 8 DP1, 9 DM, 10 DP, 11 VDD5, 12 GND, 13 VDD33, 14 VDD18, 15 XOUT, 16 XIN

## IC_SN74LVC1G08DBVR
designator U?, comment SN74LVC1G08DBVR
AND Gate IC 1 Channel  SOT-23-5; MF: Texas Instruments; Min Supply Voltage: 1.65V; Max Supply Voltage: 5.5V; Output Current: 32mA; Number of Inputs: 2; Propagation Delay: 4ns; Number of Outputs: 1; Quiescent Current: 10uA; High Level Output Current: -32mA; Turn-On Delay Time: 4.5ns; Package: SOT-23-5 Texas Instruments; Availability: Unavailable; Texas_Instruments-Purchase-URL: https://snapeda.com/shop?store=Texas+Instruments&id=78735; MP: SN74LVC1G08DBVR; SnapEDA_Link: https://www.snapeda.com/parts/SN74LVC1G08DBVR/Texas%20Instruments/view-part/78735/?ref=snap; Value: *; Price: None; Supplier 1: LCSC; Manufacturer: Texas Instruments; Manufacturer Part Number: SN74LVC1G08DBVR; RoHS: Yes; Category: Logic Gates; Stock 1: 24375; Pricing 1: 5=0.0774, 50=0.0637, 150=0.0568, 500=0.0517, 3000=0.0419, 6000=0.0399 (USD); Mounting Technology: Surface Mount; Case/Package: SOT-23; Pins: 5; Weight: 0.000557oz; Min Operating Temperature: -40°C; Max Operating Temperature: 125°C; Packaging: Tape and Reel; Logic Function: AND GATE; Number of Circuits: 1; Low Level Output Current: 32mA; Number of Gates: 1; Number of Input Lines: 2; Number of Output Lines: 1; Number of Elements: 1; Number of Bits: 1; Series: 74LVC; Technology: CMOS; Package Quantity: 1; Max Output current: 32mA; Termination: SMD/SMT; Radiation Hardening: No; Reach SVHC Compliant: No; Lead Free: Lead Free; RoHS Compliant: Yes; ComponentLink1URL: https://datasheet.ciiva.com/28540/1772545-28540795.pdf?src-supplier=Element14; ComponentLink1Description: https://datasheet.ciiva.com/28540/1772545-28540795.pdf?src-supplier=Element14; ComponentLink2URL: https://datasheet.ciiva.com/46439/1834190-46439158.pdf?src-supplier=Element14; ComponentLink2Description: https://datasheet.ciiva.com/46439/1834190-46439158.pdf?src-supplier=Element14; ComponentLink3URL: https://datasheet.ciiva.com/48703/001074511-da-01-en-ic-2-input-sn74lvc1g08dbvr-sot-23-5-tid-48703802.pdf?src-supplier=Conrad; ComponentLink3Description: https://datasheet.ciiva.com/48703/001074511-da-01-en-ic-2-input-sn74lvc1g08dbvr-sot-23-5-tid-48703802.pdf?src-supplier=Conrad; Supplier Part Number 1: C7666
footprint IC_SN74LVC1G08DBVR
pins: 1 A, 2 B, 3 GND (power), 4 Y, 5 VCC (power)

## IC_SN74LVC3G07DCUR
designator U?, comment SN74LVC3G07DCUR
Triple Buffer/Driver With Open-Drain Output, DCU0008A, LARGE T&R; Manufacturer: Texas Instruments; VCC(Max)(V): 5.5; Sub-Family: Non-Inverting Buffer/Driver; Logic: True; tpd @ Nom Voltage(Max)(ns): 8.3,4.8,4.2,3.4; Output Type: CMOS; F @ Nom Voltage(Max)(Mhz): 150; Technology Family: LVC; ICC @ Nom Voltage(Max)(mA): 0.01; Voltage(Nom)(V): 1.8,2.5,3.3,5; Schmitt Trigger: No; VCC(Min)(V): 1.65; Bits(#): 3; Input Type: CMOS/TTL; Rating: Catalog; Output Drive (IOL/IOH)(Max)(mA): 32/-32; Generic Part Number: SN74LVC3G07; PackageReference: DCU0008A; 3-State Output: No; DatasheetVersion: SCES365K; Operating Temperature Range(C): -40 to 125,-40 to 85; Manufacturer Part Number: SN74LVC3G07DCUR
footprint IC_SN74LVC3G07DCUR
pins: 1 1A, 2 3Y, 3 2A, 4 GND, 5 2Y, 6 3A, 7 1Y, 8 VCC

## IC_TPD4E1U06DCKR
designator U?, comment TPD4E1U06DCKR
TVS DIODE 5.5VWM 15VC SC70-6; Manufacturer: Texas Instruments; Direction: Unidirectional; Value: 1pF; Operating Supply Voltage: 5.5V; Min Breakdown Voltage: 6.5V; Clamping Voltage: 11V; Peak Pulse Power: 45W; Power Line Protection: Yes; Number of Channels: 4; Test Current: 1mA; Max Reverse Leakage Current: 10nA; Peak Pulse Current: 3A; Interface: LVDS,USB,Ethernet; Supplier 1: LCSC; Manufacturer Part Number: TPD4E1U06DCKR; RoHS: Yes; Category: Integrated Circuits (ICs); Stock 1: 448671; Pricing 1: 1=0.1276, 10=0.0987, 30=0.0864, 100=0.0709, 500=0.064, 1000=0.0478 (USD); Mounting Technology: Surface Mount; Case/Package: SC; Pins: 6; Min Operating Temperature: -40°C; Max Operating Temperature: 125°C; Package Quantity: 3000; Packaging: Tape and Reel; Reverse Standoff Voltage: 5.5V; Breakdown Voltage: 6.5V; Termination: SMD/SMT; ESD Protection: Yes; Working Voltage: 5.5V; Max Power Dissipation: 45W; Series: -; Number of Unidirectional Channels: 4; Length: 2.15mm; Width: 1.4mm; Height: 1mm; Reach SVHC Compliant: No; Lead Free: Lead Free; RoHS Compliant: Yes; ComponentLink1URL: https://datasheet.ciiva.com/12545/tpd4e1u06-224689-12545136.pdf?src-supplier=Mouser; ComponentLink1Description: https://datasheet.ciiva.com/12545/tpd4e1u06-224689-12545136.pdf?src-supplier=Mouser; ComponentLink2URL: https://datasheet.ciiva.com/6574/tpd4e1u06-6574672.pdf?src-supplier=Digi-Key; ComponentLink2Description: https://datasheet.ciiva.com/6574/tpd4e1u06-6574672.pdf?src-supplier=Digi-Key; Supplier Part Number 1: C194628
footprint IC_TPD4E1U06DCKR
pins: 1 D+, 2 GND, 3 D+, 4 D-, 5 NC, 6 D-

## IC_TPS2116DRLR
designator U?, comment TPS2116DRLR
1.6-V to 5.5-V, 40-mΩ, 2.5-A, low-IQ, priority power multiplexer 8-SOT-5X3 -40 to 125; MF: Texas Instruments; Check_prices: https://www.snapeda.com/parts/TPS2116DRLR/Texas%20Instruments/view-part/5674360/?ref=eda; MP: TPS2116DRLR; Package: Package; Price: None; Availability: No availability data; SnapEDA_Link: https://www.snapeda.com/parts/TPS2116DRLR/Texas%20Instruments/view-part/5674360/?ref=snap; Value: *; Supplier 1: LCSC; Manufacturer: Texas Instruments; Manufacturer Part Number: TPS2116DRLR; RoHS: Yes; Category: Voltage Supervisors; Stock 1: 562; Pricing 1: 1=0.6651, 10=0.5457, 30=0.4853, 100=0.4264, 500=0.3914, 1000=0.3723 (USD); Supplier Part Number 1: C3235557
footprint IC_TPS2116
pins: 1 GND, 2 VOUT, 3 VIN1, 4 PR1, 5 MODE, 6 VIN2, 7 VOUT, 8 ST

## IC_W25Q128JVSIQ
designator U?, comment W25Q128JVSIQ
NOR Flash Serial (SPI, Dual SPI, Quad SPI) 3.3V 128M-bit 16M x 8 6ns 8-Pin SOIC Tube; Manufacturer: Winbond; Memory Format: Non-Volatile,FLASH; Frequency: 133MHz; Memory Size: 128Mb; Supplier 1: Digi-Key; Manufacturer Part Number: W25Q128JVSIQ; RoHS: Yes; Category: Flash; Stock 1: 154352; Pricing 1: 1=1.71, 10=1.562, 25=1.52, 50=1.5124, 100=1.3519, 250=1.348, 500=1.32762, 1000=1.27127, 5000=1.18359 (USD); Mounting Technology: Surface Mount; Case/Package: SOIC; Min Operating Temperature: -40°C; Max Operating Temperature: 85°C; Packaging: Tray; Series: SpiFlash®; RoHS Compliant: Yes; ComponentLink1URL: http://www.winbond.com/resource-files/w25q128jv%20revf%2003272018%20plus.pdf?src-supplier=Digi-Key; ComponentLink1Description: http://www.winbond.com/resource-files/w25q128jv%20revf%2003272018%20plus.pdf?src-supplier=Digi-Key; Supplier Part Number 1: W25Q128JVSIQ-ND
footprint IC_W25Q128JVSIQ
pins: 1 ~{CS}, 2 DO, 3 ~{WP}, 4 GND (power), 5 DI, 6 CLK, 7 ~{HOLD}, 8 VCC

## IND_MHQ1005P2N0STD25
designator L?, comment 2nH 50mOhm
FIXED IND 2NH 1A 50 MOHM SMD; MF: {'manufacturer': u'TDK'}; MP: MHQ1005P2N0STD25; Availability: Unavailable; Price: None; Value: *; Package: None
footprint IND_INDC1006X60N
pins: 1, 2

## L_IHLP2020CZER3R3M01
designator L?, comment 3.3uH
Inductor Power Shielded Wirewound 3.3uH 20% 100KHz Powdered Iron 5A 54.7mOhm DCR 2020 T/R; Manufacturer: Vishay Dale; Manufacturer Part Number: IHLP2020CZER3R3M01; Core Material: Metal,Composite; Saturation Current: 8.5A; Self Resonant Frequency: 31MHz; DC Resistance (DCR): 54.7mR; Supplier 1: LCSC; RoHS: Yes; Category: Fixed Inductors; Stock 1: 3402; Pricing 1: 1=0.6237, 10=0.5537, 30=0.5426, 100=0.471 (USD); Mounting Technology: Surface Mount; Case/Package: 2020; Min Operating Temperature: -55°C; Max Operating Temperature: 125°C; Tolerance: 20%; Packaging: Tape and Reel; Shielding: Shielded; Value: 3.3uH; Test Frequency: 100kHz; Max DC Current: 8.5A; Termination: SMD/SMT; RMS Current (Irms): 5A; Inductance Tolerance: 20%; Series: IHLP-2020CZ-01; Max Current Rating: 5A; Length: 5.49mm; Width: 5.18mm; Height: 3mm; Depth: 5.43mm; Radiation Hardening: No; Military Standard: Not; Lead Free: Lead Free; RoHS Compliant: Yes; Reach SVHC Compliant: Unknown; ComponentLink1URL: https://datasheet.ciiva.com/1051/lp20cz01-1051660.pdf?src-supplier=Digi-Key; ComponentLink1Description: https://datasheet.ciiva.com/1051/lp20cz01-1051660.pdf?src-supplier=Digi-Key; ComponentLink2URL: https://datasheet.ciiva.com/1051/lp20cz01-1051661.pdf?src-supplier=Digi-Key; ComponentLink2Description: https://datasheet.ciiva.com/1051/lp20cz01-1051661.pdf?src-supplier=Digi-Key; ComponentLink3URL: https://datasheet.ciiva.com/1051/lp20cz01-1051662.pdf?src-supplier=Digi-Key; ComponentLink3Description: https://datasheet.ciiva.com/1051/lp20cz01-1051662.pdf?src-supplier=Digi-Key; ComponentLink4URL: https://datasheet.ciiva.com/8494/lp20cz01-8494984.pdf?src-supplier=Avnet; ComponentLink4Description: https://datasheet.ciiva.com/8494/lp20cz01-8494984.pdf?src-supplier=Avnet; ComponentLink5URL: https://datasheet.ciiva.com/16390/lp20cz01-16390407.pdf?src-supplier=Future+Electronics; ComponentLink5Description: https://datasheet.ciiva.com/16390/lp20cz01-16390407.pdf?src-supplier=Future+Electronics; Supplier Part Number 1: C553993
footprint L_IHLP2020CZER3R3M01
pins: 1, 2

## L_LQG15HS1N0S02D
designator L?, comment 1nH
Inductor RF Chip Multi-Layer 1nH 0.3nH 100MHz 8Q-Factor Air 1A 70mOhm DCR 0402 T/R; Manufacturer: Murata; Manufacturer Part Number: LQG15HS1N0S02D; Q Factor: 8; Current Rating: 300mA; Shielding: Unshielded; Self Resonant Frequency: 10GHz; DC Resistance (DCR): 70mR; Supplier 1: LCSC; RoHS: Yes; Category: Fixed Inductors; Stock 1: 12000; Pricing 1: 100=0.0076, 1000=0.0064, 3000=0.0057, 10000=0.004, 50000=0.0036, 100000=0.0035 (USD); Mounting Technology: Surface Mount; Case/Package: 0402; Core Material: Air; Case Code (Metric): 1005; Case Code (Imperial): 0402; Min Operating Temperature: -55°C; Max Operating Temperature: 125°C; Packaging: Tape and Reel; Package Quantity: 1; Value: 1nH; Test Frequency: 100MHz; Max DC Current: 300mA; Termination: SMD/SMT; DC Current: 300mA; Series: LQG15HS; Max Current Rating: 300mA; Length: 1mm; Width: 0.02inch; Height: 0.5mm; Height - Seated (Max): 0.022inch; Depth: 0.55mm; Radiation Hardening: No; Military Standard: Not; Lead Free: Lead Free; RoHS Compliant: Yes; ComponentLink1URL: https://datasheet.ciiva.com/27054/1864353-27054316.pdf?src-supplier=Jameco; ComponentLink1Description: https://datasheet.ciiva.com/27054/1864353-27054316.pdf?src-supplier=Jameco; ComponentLink2URL: https://datasheet.ciiva.com/1038/l0075s0083lqg15hs-1038134.pdf?src-supplier=Digi-Key; ComponentLink2Description: https://datasheet.ciiva.com/1038/l0075s0083lqg15hs-1038134.pdf?src-supplier=Digi-Key; ComponentLink3URL: https://datasheet.ciiva.com/1038/l0075s0083lqg15hs-1038133.pdf?src-supplier=Digi-Key; ComponentLink3Description: https://datasheet.ciiva.com/1038/l0075s0083lqg15hs-1038133.pdf?src-supplier=Digi-Key; ComponentLink4URL: https://datasheet.ciiva.com/1038/l0075s0083lqg15hs-1038135.pdf?src-supplier=Digi-Key; ComponentLink4Description: https://datasheet.ciiva.com/1038/l0075s0083lqg15hs-1038135.pdf?src-supplier=Digi-Key; ComponentLink5URL: https://datasheet.ciiva.com/4979/o05e-4979757.pdf?src-supplier=Mouser; ComponentLink5Description: https://datasheet.ciiva.com/4979/o05e-4979757.pdf?src-supplier=Mouser; ComponentLink6URL: https://datasheet.ciiva.com/3082/l0075s0083lqg15hs-3082177.pdf?src-supplier=Avnet; ComponentLink6Description: https://datasheet.ciiva.com/3082/l0075s0083lqg15hs-3082177.pdf?src-supplier=Avnet; Supplier Part Number 1: C18222
footprint INDUCTOR_0402
pins: 1, 2

## L_LQM18DN100M70L
designator L?, comment 10uH 300mA
Inductor, 10Uh, 0.3A, Multilayer Rohs Compliant: Yes; Manufacturer: Murata; Manufacturer Part Number: LQM18DN100M70L; Supplier 1: Digi-Key; RoHS: Yes; Category: Fixed Inductors; Stock 1: 236207; Pricing 1: 1=0.12000, 10=0.10500, 25=0.09280, 50=0.07900, 100=0.06970, 250=0.06388, 500=0.05808, 1000=0.04878 (USD); Supplier Part Number 1: 490-LQM18DN100M70LCT-ND
footprint L_490-LQM18DN100M70LCT-ND
pins: 1, 2